# Altium schematic symbol library Omron.SchLib: 1 symbol
Pins are listed as number, name and electrical type; pins without a type are passive.

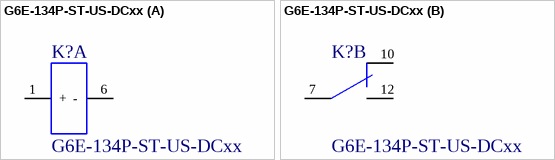
[diagram p0: symbol G6E-134P-ST-US-DCxx]

## G6E-134P-ST-US-DCxx
designator K?
Электромеханическое реле G6E-134P-ST-US-DCxx; ValueSch: G6E-134P-ST-US-DCxx
part A pins: 1 +, 6 -
part B pins: 7 Move1 "Условно подвижный контакт", 10 Closed1 "Условно замкнутый контакт", 12 Open1 "Условно разомкнутый контакт"